# Altium footprint library _SOT95P280X145-5N.PcbLib: 1 footprints
Each footprint in its own frame and in the unit in brackets; x right, y up, seen from the top. Pads: shape width x height; smd on the part's side, far side on the other; paste and mask are expansions set on the pad; w line width, h text height; cw(c..) or ccw(c..) is an arc to the next point about the centre after c.
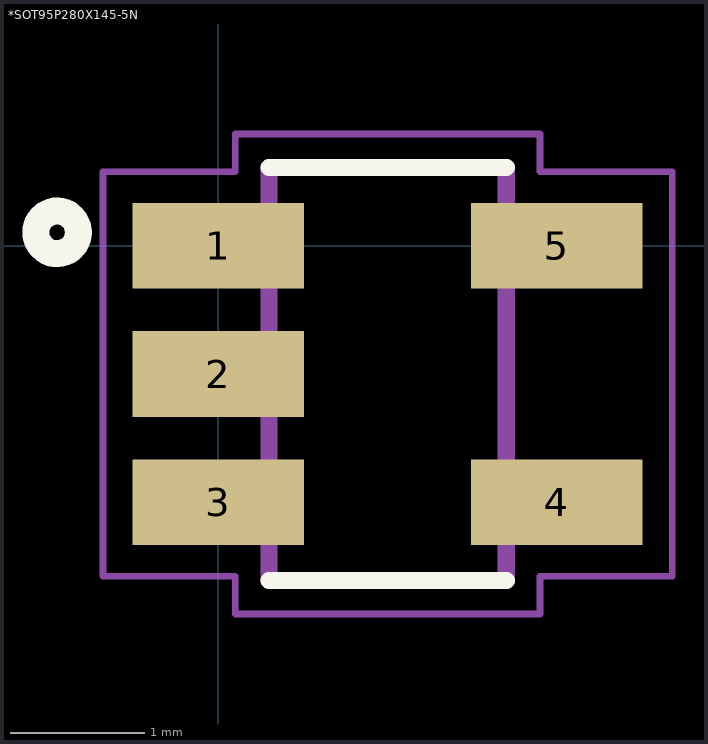
[diagram p0: the footprint, top view; thin cyan lines are the x and y axes]

## *SOT95P280X145-5N [mm]
pads (5):
  rect 1.27x0.635 smd: 1(0,0) 2(0,-0.95) 3(0,-1.9) 4(2.51,-1.9) 5(2.51,0)
Top Overlay:
  circle w0.2: c-1.195,0.1 r0.158
  lines w0.127: 0.375,-2.48 2.135,-2.48 ; 0.375,0.58 2.135,0.58
Mechanical 13:
  lines w0.127: 0.375,-2.48 2.135,-2.48 ; 0.375,-2.48 0.375,0.58 ; 0.375,-2.48 2.135,-2.48 ; 0.375,-2.48 0.375,0.58 ; 0.375,0.58 2.135,0.58 ; 0.375,0.58 2.135,0.58 ; 2.135,-2.48 2.135,0.58 ; 2.135,-2.48 2.135,0.58
Mechanical 15:
  lines w0.05: -0.855,-2.45 -0.855,0.55 0.125,0.55 0.125,0.83 2.385,0.83 2.385,0.55 3.365,0.55 3.365,-2.45 2.385,-2.45 2.385,-2.73 0.125,-2.73 0.125,-2.45 -0.855,-2.45
3D body "UCC27519.STEP": height 1.44, standoff -0.01, extent -0.13,-2.4 2.67,0.5